# Altium footprint library Components - 01.12.24 - 19.03.PcbLib: 5 footprints
Each footprint in its own frame and in the unit in brackets; x right, y up, seen from the top. Pads: shape width x height; smd on the part's side, far side on the other; paste and mask are expansions set on the pad; w line width, h text height; cw(c..) or ccw(c..) is an arc to the next point about the centre after c.
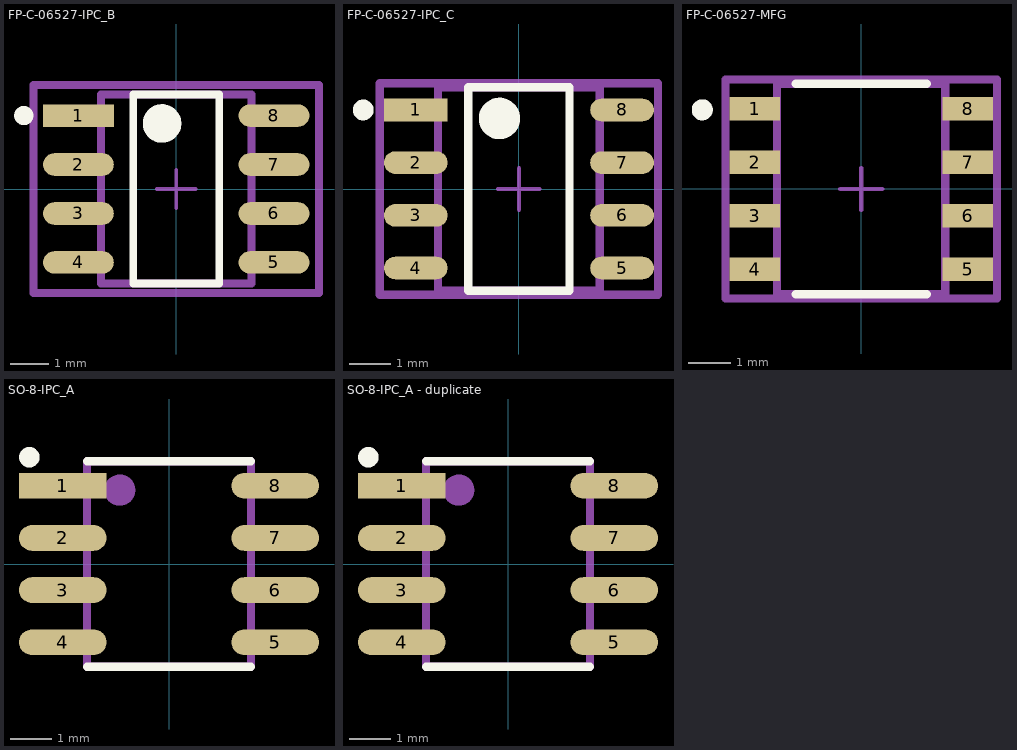
[diagram p0: the footprints below, top view; thin cyan lines are the x and y axes]

## FP-C-06527-IPC_B [mil]
pads (8):
  rect 72.24x23.03 smd paste+0 mask+0: 1(-99.83,75)
  rrect100% 72.24x23.03 smd paste+0 mask+0: 2(-99.83,25) 3(-99.83,-25) 4(-99.83,-75) 5(99.83,-75) 6(99.83,-25) 7(99.83,25) 8(99.83,75)
Top Overlay:
  circle w9.84: c-155.63,75 r4.92
  circle w19.68: c-14.5,66.93 r9.84
  lines w7.87: -44.03,-96.46 -44.03,96.46 44.03,96.46 44.03,-96.46 -44.03,-96.46
Top Assembly:
  lines w7.87: -145.79,-106.3 -145.79,106.3 145.79,106.3 145.79,-106.3 -145.79,-106.3
  text ".Designator" at 0,7.4 h39.37
Top 3D Body:
  lines w7.87: -76.77,-96.46 -76.77,96.46 76.77,96.46 76.77,-96.46 -76.77,-96.46
Top Courtyard:
  lines w7.87: -145.79,-106.3 -145.79,106.3 145.79,106.3 145.79,-106.3 -145.79,-106.3
Top Component Center:
  lines w3.94: -19.68,0 19.68,0 ; 0,-19.68 0,19.68
3D body "Trans_Vishay_SI4848ADY-T1-GE3_eec.STEP": height 10, standoff 0, extent -145.79,-106.3 145.79,106.3

## FP-C-06527-IPC_C [mil]
pads (8):
  rect 60.43x21.45 smd paste+0 mask+0: 1(-97.86,75)
  rrect100% 60.43x21.45 smd paste+0 mask+0: 2(-97.86,25) 3(-97.86,-25) 4(-97.86,-75) 5(97.86,-75) 6(97.86,-25) 7(97.86,25) 8(97.86,75)
Top Overlay:
  circle w19.68: c-18.44,66.93 r9.84
  circle w9.84: c-147.76,75 r4.92
  lines w7.87: -47.96,-96.46 47.96,-96.46 47.96,96.46 -47.96,96.46 -47.96,-96.46
Top Assembly:
  lines w7.87: -132.01,-100.39 132.01,-100.39 132.01,100.39 -132.01,100.39 -132.01,-100.39
  text ".Designator" at 0,7.4 h39.37
Top 3D Body:
  lines w7.87: -76.77,-96.46 76.77,-96.46 76.77,96.46 -76.77,96.46 -76.77,-96.46
Top Courtyard:
  lines w7.87: -132.01,-100.39 132.01,-100.39 132.01,100.39 -132.01,100.39 -132.01,-100.39
Top Component Center:
  lines w3.94: -19.68,0 19.68,0 ; 0,-19.68 0,19.68
3D body "Trans_Vishay_SI4848ADY-T1-GE3_eec.STEP": height 10, standoff 0, extent -132.01,-100.39 132.01,100.39

## FP-C-06527-MFG [mil]
pads (8):
  rect 47.01x22.01 smd paste+0 mask+0: 1(-99.49,75) 2(-99.49,25) 3(-99.49,-25) 4(-99.49,-75) 5(99.49,-75) 6(99.49,-25) 7(99.49,25) 8(99.49,75)
Top Overlay:
  circle w9.84: c-148.62,74.02 r4.92
  lines w7.87: -61.22,-98.43 61.22,-98.43 ; -61.22,98.43 61.22,98.43
Top Assembly:
  lines w7.87: -126.93,-102.36 126.93,-102.36 126.93,102.36 -126.93,102.36 -126.93,-102.36
  text ".Designator" at 0,7.4 h39.37
Top 3D Body:
  lines w7.87: -78.74,-98.43 78.74,-98.43 78.74,98.43 -78.74,98.43 -78.74,-98.43
Top Courtyard:
  lines w7.87: -126.93,-102.36 126.93,-102.36 126.93,102.36 -126.93,102.36 -126.93,-102.36
Top Component Center:
  lines w3.94: -19.68,0 19.68,0 ; 0,-19.68 0,19.68
3D body "Trans_Vishay_SI4848ADY-T1-GE3_eec.STEP": height 10, standoff 0, extent -126.93,-102.36 126.93,102.36

## SO-8-IPC_A [mil]
pads (8):
  rect 84.05x24.6 smd paste+0 mask+0: 1(-101.8,75)
  rrect100% 84.05x24.6 smd paste+0 mask+0: 2(-101.8,25) 3(-101.8,-25) 4(-101.8,-75) 5(101.8,-75) 6(101.8,-25) 7(101.8,25) 8(101.8,75)
Top Overlay:
  circle w9.84: c-133.86,102.36 r4.92
  lines w7.87: -78.74,-98.43 78.74,-98.43 ; -78.74,98.43 78.74,98.43
Mechanical 29:
  circle w15.75: c-47.24,70.87 r7.07
  lines w7.87: -78.74,-98.43 -78.74,98.43 78.74,98.43 78.74,-98.43 -78.74,-98.43
3D body "Trans_Vishay_SI4848ADY-T1-GE3_eec.STEP": height 68.94, standoff 0, extent -118.11,-96.46 118.11,96.46

## SO-8-IPC_A - duplicate [mil]
pads (8):
  rect 84.05x24.6 smd paste+0 mask+0: 1(-101.8,75)
  rrect100% 84.05x24.6 smd paste+0 mask+0: 2(-101.8,25) 3(-101.8,-25) 4(-101.8,-75) 5(101.8,-75) 6(101.8,-25) 7(101.8,25) 8(101.8,75)
Top Overlay:
  circle w9.84: c-133.86,102.36 r4.92
  lines w7.87: -78.74,-98.43 78.74,-98.43 ; -78.74,98.43 78.74,98.43
Mechanical 29:
  circle w15.75: c-47.24,70.87 r7.07
  lines w7.87: -78.74,-98.43 -78.74,98.43 78.74,98.43 78.74,-98.43 -78.74,-98.43
3D body "Trans_Vishay_SI4848ADY-T1-GE3_eec.STEP": height 68.94, standoff 0, extent -118.11,-96.46 118.11,96.46